# EAGLE library part 613007143121 (library Wuerth_Elektronik_eiCan_Pin_&_Socked_Headers_v1.3)
WR-PHD 2.54mm Angled Socket Header, 7 Pins
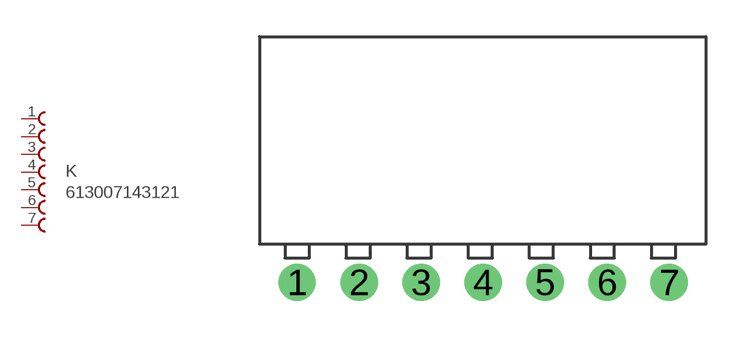
[diagram p148: symbol with the pads of 613007143121; footprint 613007143121]

Designator prefix K

## 613007143121  [613007143121]
1  1  pas
2  2  pas
3  3  pas
4  4  pas
5  5  pas
6  6  pas
7  7  pas

## Footprint 613007143121 (pad centres in mm)
WR-PHD 2.54mm Angled Socket Header, 7 Pins
drill 1.02 round: 1 0,0; 2 2.54,0; 3 5.08,0; 4 7.62,0; 5 10.16,0; 6 12.7,0; 7 15.24,0